# Altium integrated library TE Humidity Sensors.IntLib: 2 symbols
Pins are listed as number, name and electrical type; pins without a type are passive.

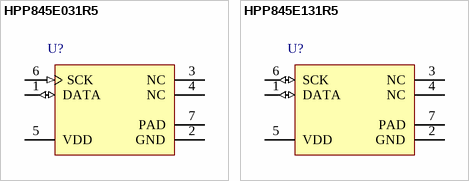
[diagram p0: symbols HPP845E031R5 to HPP845E131R5]

## HPP845E031R5
designator U?
Digital Relative Humidity Sensor with Temperature Output, 1.5 to 3.6 V, -40 to 125 degC, 6-Pin DFN (SON), RoHS, Tape and Reel; Manufacturer: TE Connectivity; PartNumber: HPP845E031R5; DatasheetVersion: 05/2017; PackageReference: SMD; PackageDescription: 6-Pin Small Outline No-lead Package, Body 3 x 3 mm, Pitch 1 mm; Supplier 1: Digi-Key; Supplier Part Number 1: 223-1591-2-ND; Supplier 2: Digi-Key; Supplier Part Number 2: 223-1591-1-ND; Mounting Technology: Surface Mount; ComponentLink1Description: Manufacturer URL; ComponentLink1URL: http://www.te.com; ComponentLink2Description: Datasheet; ComponentLink2URL: http://www.te.com/commerce/DocumentDelivery/DDEController?Action=srchrtrv&DocNm=HPC199_6&DocType=Data+Sheet&DocLang=English
footprint TECO-SON-6_V (SON, 6-Leads, Body 3x3mm, Pitch 1mm, Thermal Pad 2.4x1.5mm)
pins: 1 DATA (io) "Data bit-stream", 2 GND (power) "Ground", 3 NC "Must be left unconnected", 4 NC "Must be left unconnected", 5 VDD (power) "Supply Voltage", 6 SCK (in) "Selector for RH or Temp", 7 PAD (power) "Ground or unconnected"

## HPP845E131R5
designator U?
Digital Relative Humidity sensor with Temperature output, 1.5 to 3.6 V, -40 to 125 degC, 6-Pin SMD, RoHS, Tape and Reel; Manufacturer: TE Connectivity; PartNumber: HPP845E131R5; DatasheetVersion: 05/217; PackageReference: HPP845E131R5; PackageDescription: 6-Pin Surface Mount Device, Body 3 x 3 mm, Pitch 1 mm; Supplier 1: Digi-Key; Supplier Part Number 1: 223-1595-2-ND; Supplier 2: Digi-Key; Supplier Part Number 2: 223-1595-1-ND; RoHSCompliant: false; Lead Free: Lead Free; Mounting Technology: Surface Mount; ComponentLink1Description: Manufacturer URL; ComponentLink1URL: http://www.te.com/; ComponentLink2Description: Datasheet; ComponentLink2URL: http://www.te.com/commerce/DocumentDelivery/DDEController?Action=srchrtrv&DocNm=HPC199_6&DocType=Data+Sheet&DocLang=English
footprint TECO-HPP845E131R5_V (SMD, 6-Leads, Body 3x3mm, Pitch 1mm, Thermal Pad 2.4x1.5mm)
pins: 1 DATA (io) "Data bit-stream", 2 GND (power) "Ground", 3 NC "Must be left unconnected", 4 NC "Must be left unconnected", 5 VDD (power) "Supply Voltage", 6 SCK (io) "Selector for RH or Temp", 7 PAD (power) "Ground or unconnected"